# EAGLE library part TFT-2.2 (library RM68130-25P-0.8MM)
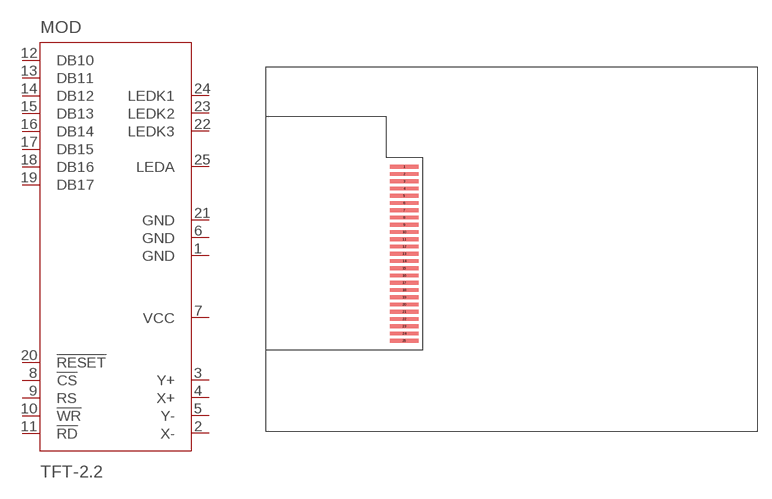
[diagram p0: symbol with the pads of TFT-2.2INCH-25PX0.8MM; footprint TFT-2.2INCH-25PX0.8MM]

Designator prefix MOD

## TFT-2.2  [TFT-2.2INCH-25PX0.8MM]
1  GND
2  X-
3  Y+
4  X+
5  Y-
6  GND
7  VCC
8  !CS
9  RS
10  !WR
11  !RD
12  DB10
13  DB11
14  DB12
15  DB13
16  DB14
17  DB15
18  DB16
19  DB17
20  !RESET
21  GND
22  LEDK3
23  LEDK2
24  LEDK1
25  LEDA

## Footprint TFT-2.2INCH-25PX0.8MM (pad centres in mm)
smd 3.2 x 0.4: 1 15.334,29.198; 2 15.334,28.398; 3 15.334,27.599; 4 15.334,26.799; 5 15.334,25.998; 6 15.334,25.198; 7 15.334,24.398; 8 15.334,23.599; 9 15.334,22.799; 10 15.334,21.998; 11 15.334,21.198; 12 15.334,20.398; 13 15.334,19.599; 14 15.334,18.799; 15 15.334,17.998; 16 15.334,17.198; 17 15.334,16.398; 18 15.334,15.598; 19 15.334,14.799; 20 15.334,13.998; 21 15.334,13.198; 22 15.334,12.399; 23 15.334,11.598; 24 15.334,10.799; 25 15.334,9.998